# Altium integrated library Analog Devices Clock Generation and Distribution.IntLib: 120 symbols (part 5 of 18)
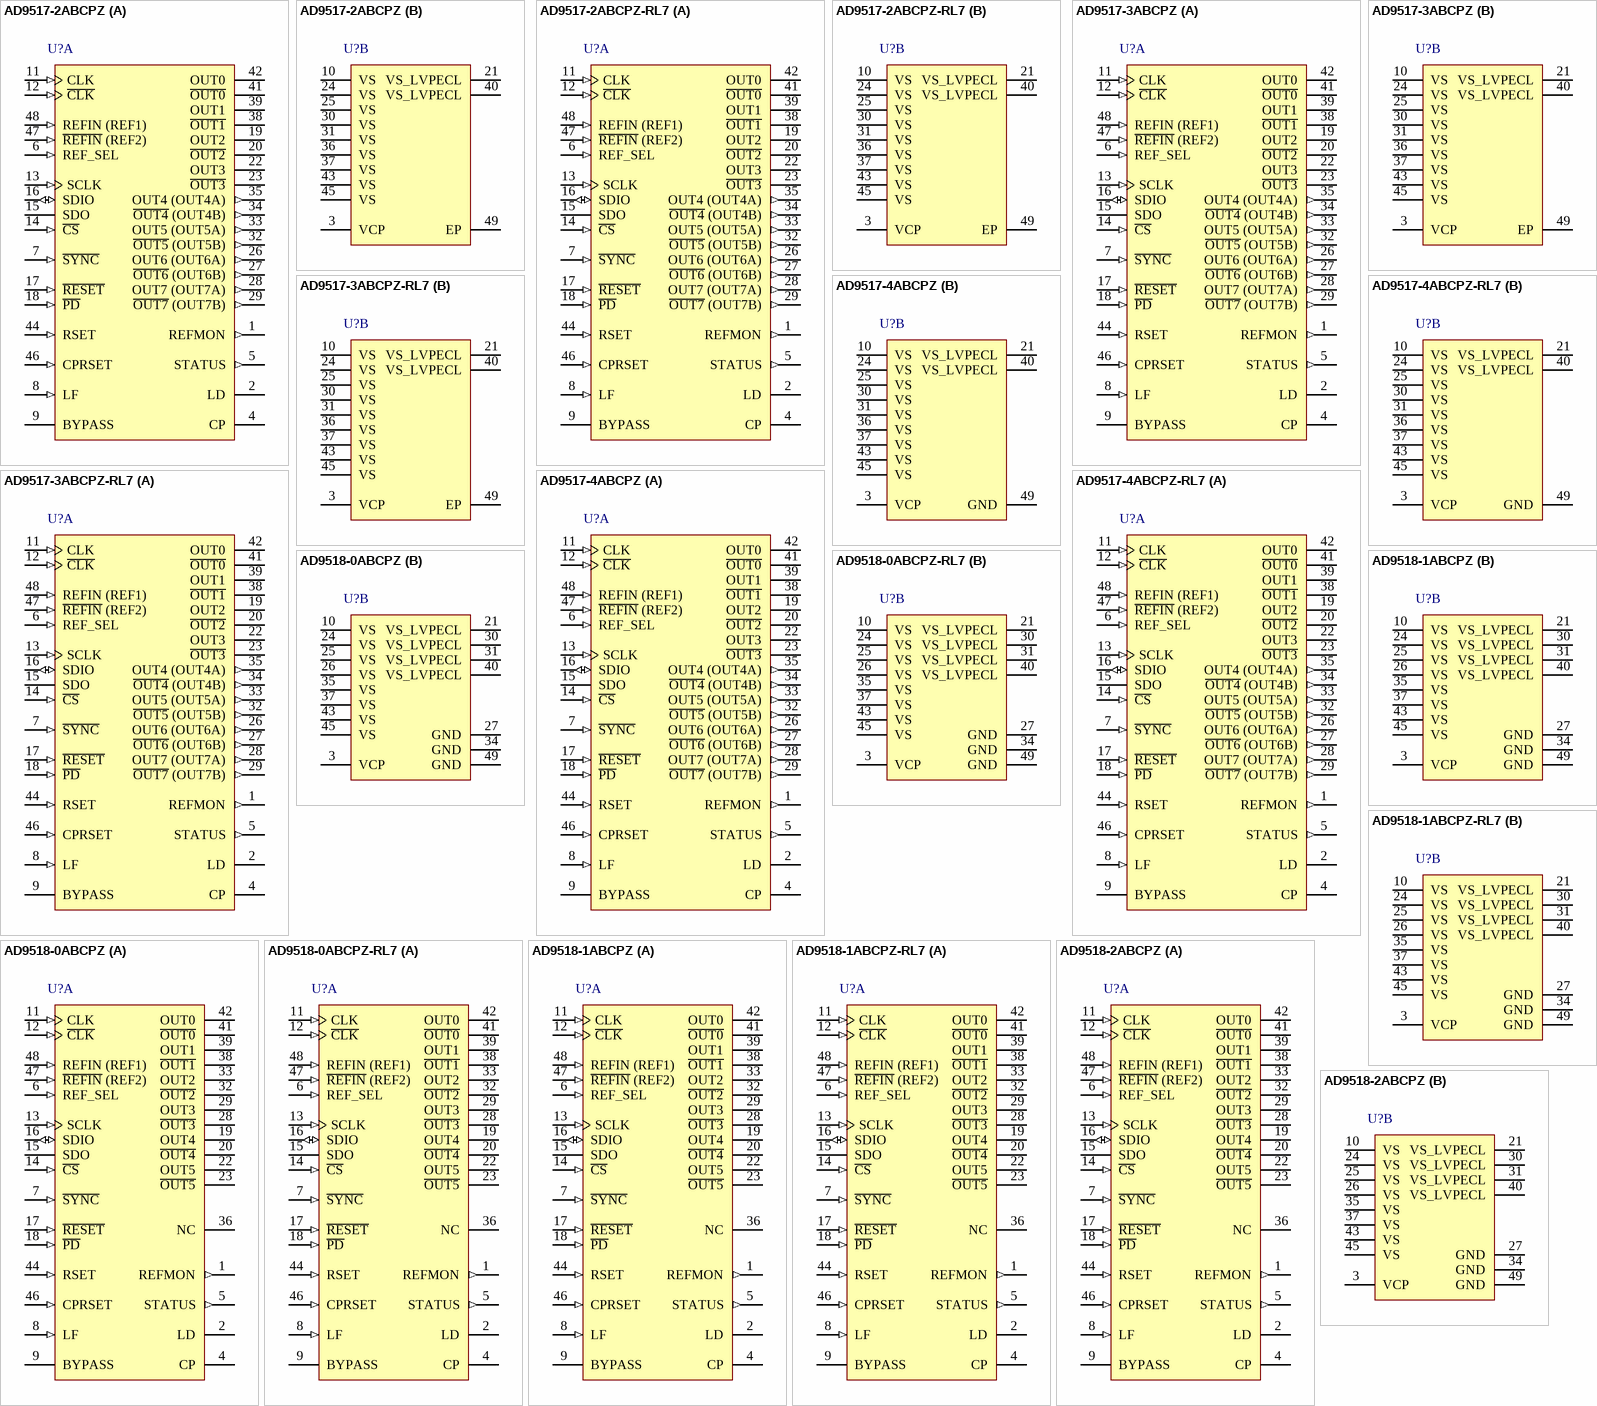
[diagram p16: symbols AD9517-2ABCPZ to AD9518-2ABCPZ]

## AD9518-2ABCPZ
designator U?
6 Outputs Clock Generator with Integrated 2.2 GHz VCO, 3.3 V Supply, Industrial, 48-pin QFN (CP-48-8), Tray; Manufacturer: Analog Devices; PartNumber: AD9518-2ABCPZ; # of Inputs: 2; # of Outputs: 6; Supply Voltage (V): 3.3; I/O Interface: Serial; Max f-out: 2.335 GHz; On-Chip VCO or DCO: Yes; Output Logic: LVPECL; DatasheetVersion: Rev. C; PackageVersion: 06-06-2012-C, 06/2012; PackageReference: CP-48-8; PackageDescription: 48-Pin Lead Frame Chip Scale Package, Body 7 x 7 mm, Pitch 0.5 mm; Supplier 1: Digi-Key; Supplier Part Number 1: AD9518-2ABCPZ-ND; Supplier 2: Mouser; Supplier Part Number 2: 584-AD9518-2ABCPZ; Packing: Tray; Mounting Technology: Surface Mount; Code_JEDEC: MO-220-VKKD-2; ComponentLink1Description: Manufacturer URL; ComponentLink1URL: http://www.analog.com/en/index.html; ComponentLink2Description: Datasheet; ComponentLink2URL: http://www.analog.com/static/imported-files/data_sheets/AD9518_2.pdf; ComponentLink3Description: Package Specification; ComponentLink3URL: http://www.analog.com/static/imported-files/packages/PKG_PDF/LFCSP(CP)/CP_48_8.pdf; ComponentLink4Description: Product URL; ComponentLink4URL: http://www.analog.com/en/clock-and-timing/clock-generation-and-distribution/ad9518-2/products/product.html
footprint ADI-CP-48-8_N (QFN, 48-Leads, Body 7x7mm, Pitch 0.5mm, Thermal Pad 5.5x5.5mm, IPC Medium Density)
footprint ADI-CP-48-8_L (QFN, 48-Leads, Body 7x7mm, Pitch 0.5mm, Thermal Pad 5.5x5.5mm, IPC High Density)
footprint ADI-CP-48-8_M (QFN, 48-Leads, Body 7x7mm, Pitch 0.5mm, Thermal Pad 5.5x5.5mm, IPC Low Density)
part A pins: 1 REFMON (out) "Reference Monitor (Output). This pin has multiple selectable outputs; see Table 44, Register 0x01B.", 2 LD (hiz) "Lock Detect (Output). This pin has multiple selectable outputs; see Table 44, Register 0x01A.", 4 CP (hiz) "Charge Pump (Output). Connects to external loop filter.", 5 STATUS (out) "Status (Output). This pin has multiple selectable outputs; see Table 44, Register 0x017.", 6 REF_SEL (in) "Reference Select. Selects REF1 (low) or REF2 (high). This pin has an internal 30 K ohm pull-down resistor.", 7 ~{SYNC} (in) "Manual Synchronizations and Manual Holdover. This pin initiates a manual synchronization and is used for manual holdover. Active low. This pin has an internal 30 K ohm pull-up resistor.", 8 LF (in) "Loop Filter (Input). Connects to VCO control voltage node internally. This pin has 31 pF of internal capacitance to ground, which may influence the loop filter design for large loop bandwidths.", 9 BYPASS "This pin is for bypassing the LDO to ground with a capacitor.", 11 CLK (in) "Along with C\L\K\, this is the self-biased differential input for the clock distribution section. This pin can be left floating if internal VCO is used.", 12 ~{CLK} (in) "Along with CLK, this is the self-biased differential input for the clock distribution section. This pin can be left floating if internal VCO is used.", 13 SCLK (in) "Serial Control Port Data Clock Signal.", 14 ~{CS} (in) "Serial Control Port Chip Select, Active Low. This pin has an internal 30 K ohm pull-up resistor.", 15 SDO (hiz) "Serial Control Port. Unidirectional serial data output.", 16 SDIO (io) "Serial Control Port. Bidirectional serial data input/output.", 17 ~{RESET} (in) "Chip Reset, Active Low. This pin has an internal 30 K ohm pull-up resistor.", 18 ~{PD} (in) "Chip Power Down, Active Low. This pin has an internal 30 K ohm pull-up resistor.", 19 OUT4 (hiz) "LVPECL Output; One Side of a Differential LVPECL Output.", 20 ~{OUT4} (hiz) "LVPECL Output; One Side of a Differential LVPECL Output.", 22 OUT5 (hiz) "LVPECL Output; One Side of a Differential LVPECL Output", 23 ~{OUT5} (hiz) "LVPECL Output; One Side of a Differential LVPECL Output", 28 ~{OUT3} (hiz) "LVPECL Output; One Side of a Differential LVPECL Output", 29 OUT3 (hiz) "LVPECL Output; One Side of a Differential LVPECL Output", 32 ~{OUT2} (hiz) "LVPECL Output; One Side of a Differential LVPECL Output", 33 OUT2 (hiz) "LVPECL Output; One Side of a Differential LVPECL Output", 36 NC "No Connection", 38 ~{OUT1} (hiz) "LVPECL Output; One Side of a Differential LVPECL Output", 39 OUT1 (hiz) "LVPECL Output; One Side of a Differential LVPECL Output", 41 ~{OUT0} (hiz) "LVPECL Output; One Side of a Differential LVPECL Output", 42 OUT0 (hiz) "LVPECL Output; One Side of a Differential LVPECL Output", 44 RSET (in) "Resistor connected here sets internal bias currents. Nominal value = 4.12 K ohm.", 46 CPRSET (in) "Resistor connected here sets the CP current range. Nominal value = 5.1 K ohm.", 47 ~{REFIN} (REF2) (in) "Along with REFIN, this is the self-biased differential input for the PLL reference. Alternatively, this pin is a single-ended input for REF2.", 48 REFIN (REF1) (in) "Along with R\E\F\I\N\, this is the self-biased differential input for the PLL reference. Alternatively, this pin is a single-ended input for REF1"
part B pins: 3 VCP (power) "Power Supply for Charge Pump (CP). VS =< VCP =< 5.0 V. This pin is usually 3.3 V for most applications; but if a 5 V external VCXO is used, this pin should be 5 V.", 10 VS (power) "3.3 V Power Pins.", 21 VS_LVPECL (power) "Extended Voltage 2.5 V to 3.3 V LVPECL Power Pins", 24 VS (power) "3.3 V Power Pins.", 25 VS (power) "3.3 V Power Pins.", 26 VS (power) "3.3 V Power Pins.", 27 GND (power) "Ground. See the description for EPAD.", 30 VS_LVPECL (power) "Extended Voltage 2.5 V to 3.3 V LVPECL Power Pins", 31 VS_LVPECL (power) "Extended Voltage 2.5 V to 3.3 V LVPECL Power Pins", 34 GND (power) "Ground. See the description for EPAD.", 35 VS (power) "3.3 V Power Pins.", 37 VS (power) "3.3 V Power Pins.", 40 VS_LVPECL (power) "Extended Voltage 2.5 V to 3.3 V LVPECL Power Pins", 43 VS (power) "3.3 V Power Pins.", 45 VS (power) "3.3 V Power Pins.", 49 GND (power) "Ground. The external paddle on the bottom of the package must be connected to ground for proper operation."

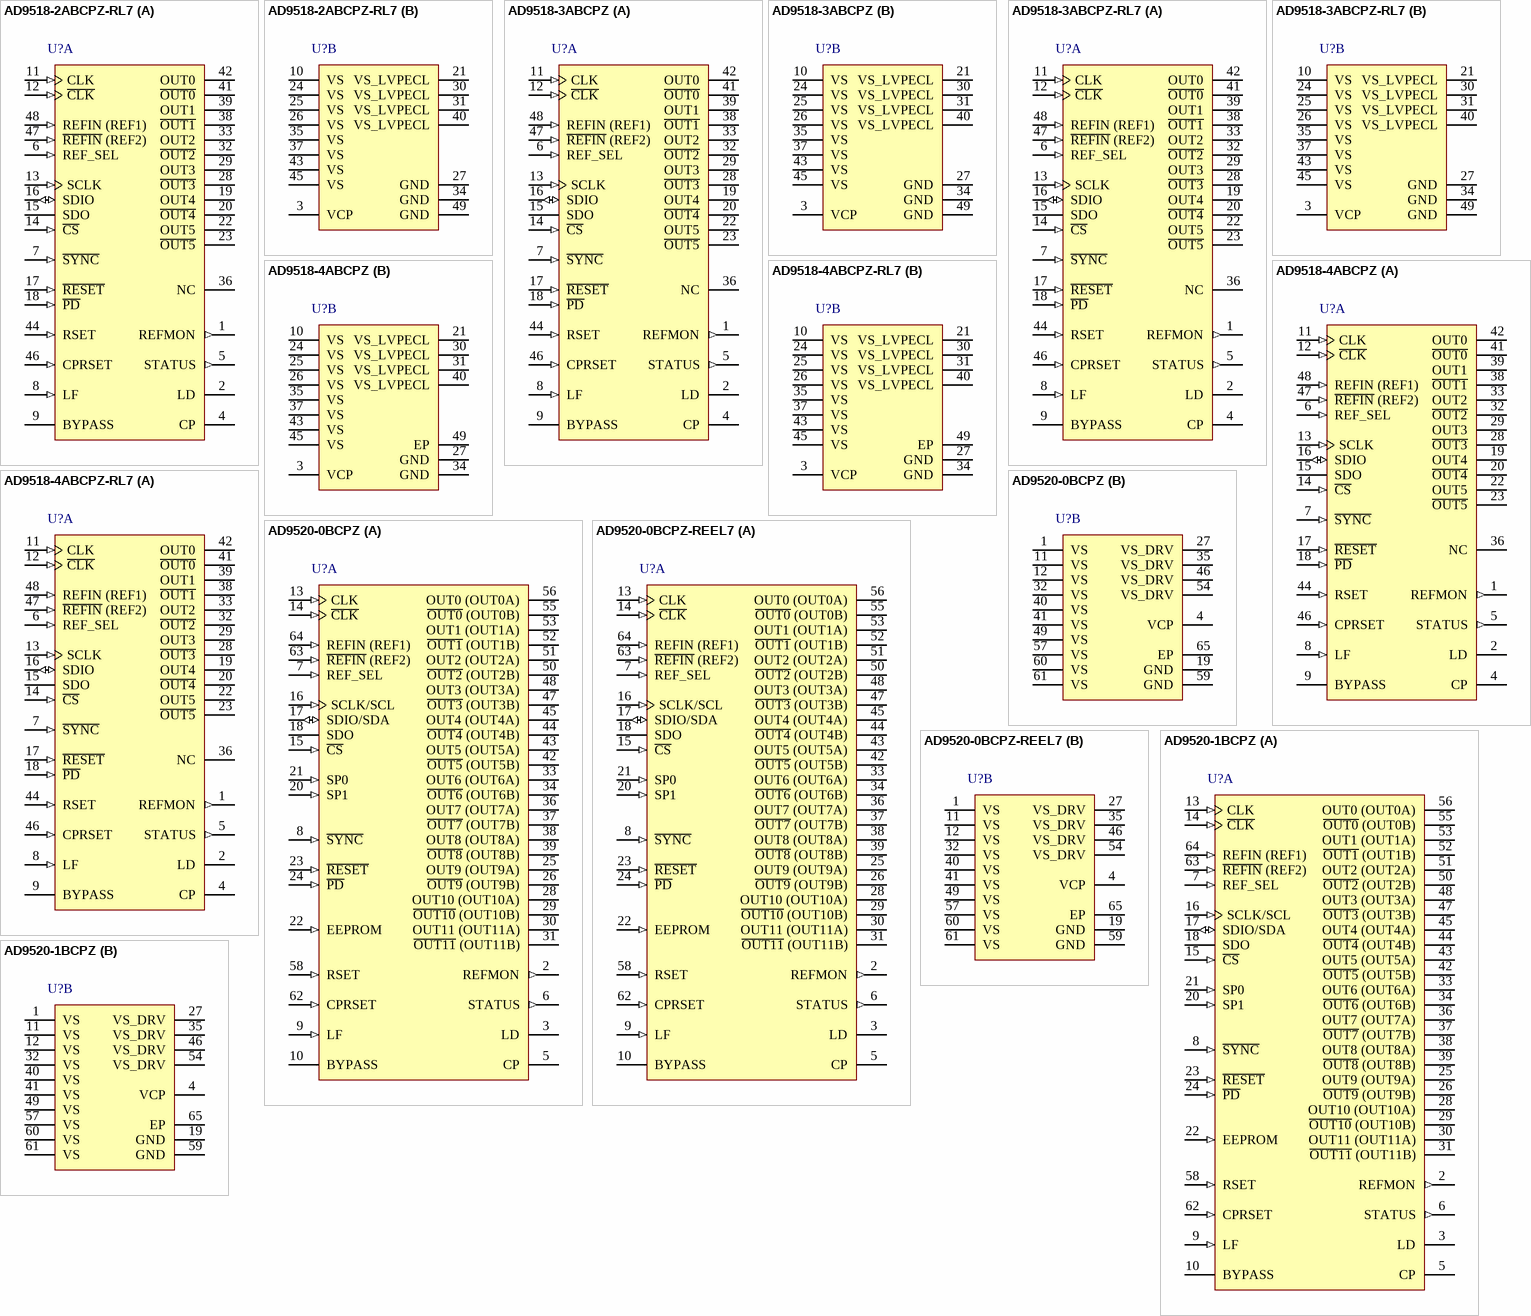
[diagram p3: symbols AD9518-2ABCPZ-RL7 to AD9520-1BCPZ]

## AD9518-2ABCPZ-RL7
designator U?
6 Outputs Clock Generator with Integrated 2.2 GHz VCO, 3.3 V Supply, Industrial, 48-pin QFN (CP-48-8), Reel; Manufacturer: Analog Devices; PartNumber: AD9518-2ABCPZ-RL7; # of Inputs: 2; # of Outputs: 6; Supply Voltage (V): 3.3; I/O Interface: Serial; Max f-out: 2.335 GHz; On-Chip VCO or DCO: Yes; Output Logic: LVPECL; DatasheetVersion: Rev. C; PackageVersion: 06-06-2012-C, 06/2012; PackageReference: CP-48-8; PackageDescription: 48-Pin Lead Frame Chip Scale Package, Body 7 x 7 mm, Pitch 0.5 mm; Supplier 1: Digi-Key; Supplier Part Number 1: AD9518-2ABCPZ-RL7-ND; Supplier 2: Mouser; Supplier Part Number 2: 584-AD9518-2ABCPZ-R7; Packing: Reel; Mounting Technology: Surface Mount; Code_JEDEC: MO-220-VKKD-2; ComponentLink1Description: Manufacturer URL; ComponentLink1URL: http://www.analog.com/en/index.html; ComponentLink2Description: Datasheet; ComponentLink2URL: http://www.analog.com/static/imported-files/data_sheets/AD9518_2.pdf; ComponentLink3Description: Package Specification; ComponentLink3URL: http://www.analog.com/static/imported-files/packages/PKG_PDF/LFCSP(CP)/CP_48_8.pdf; ComponentLink4Description: Product URL; ComponentLink4URL: http://www.analog.com/en/clock-and-timing/clock-generation-and-distribution/ad9518-2/products/product.html
footprint ADI-CP-48-8_N (QFN, 48-Leads, Body 7x7mm, Pitch 0.5mm, Thermal Pad 5.5x5.5mm, IPC Medium Density)
footprint ADI-CP-48-8_L (QFN, 48-Leads, Body 7x7mm, Pitch 0.5mm, Thermal Pad 5.5x5.5mm, IPC High Density)
footprint ADI-CP-48-8_M (QFN, 48-Leads, Body 7x7mm, Pitch 0.5mm, Thermal Pad 5.5x5.5mm, IPC Low Density)
part A pins: 1 REFMON (out) "Reference Monitor (Output). This pin has multiple selectable outputs; see Table 44, Register 0x01B.", 2 LD (hiz) "Lock Detect (Output). This pin has multiple selectable outputs; see Table 44, Register 0x01A.", 4 CP (hiz) "Charge Pump (Output). Connects to external loop filter.", 5 STATUS (out) "Status (Output). This pin has multiple selectable outputs; see Table 44, Register 0x017.", 6 REF_SEL (in) "Reference Select. Selects REF1 (low) or REF2 (high). This pin has an internal 30 K ohm pull-down resistor.", 7 ~{SYNC} (in) "Manual Synchronizations and Manual Holdover. This pin initiates a manual synchronization and is used for manual holdover. Active low. This pin has an internal 30 K ohm pull-up resistor.", 8 LF (in) "Loop Filter (Input). Connects to VCO control voltage node internally. This pin has 31 pF of internal capacitance to ground, which may influence the loop filter design for large loop bandwidths.", 9 BYPASS "This pin is for bypassing the LDO to ground with a capacitor.", 11 CLK (in) "Along with C\L\K\, this is the self-biased differential input for the clock distribution section. This pin can be left floating if internal VCO is used.", 12 ~{CLK} (in) "Along with CLK, this is the self-biased differential input for the clock distribution section. This pin can be left floating if internal VCO is used.", 13 SCLK (in) "Serial Control Port Data Clock Signal.", 14 ~{CS} (in) "Serial Control Port Chip Select, Active Low. This pin has an internal 30 K ohm pull-up resistor.", 15 SDO (hiz) "Serial Control Port. Unidirectional serial data output.", 16 SDIO (io) "Serial Control Port. Bidirectional serial data input/output.", 17 ~{RESET} (in) "Chip Reset, Active Low. This pin has an internal 30 K ohm pull-up resistor.", 18 ~{PD} (in) "Chip Power Down, Active Low. This pin has an internal 30 K ohm pull-up resistor.", 19 OUT4 (hiz) "LVPECL Output; One Side of a Differential LVPECL Output.", 20 ~{OUT4} (hiz) "LVPECL Output; One Side of a Differential LVPECL Output.", 22 OUT5 (hiz) "LVPECL Output; One Side of a Differential LVPECL Output", 23 ~{OUT5} (hiz) "LVPECL Output; One Side of a Differential LVPECL Output", 28 ~{OUT3} (hiz) "LVPECL Output; One Side of a Differential LVPECL Output", 29 OUT3 (hiz) "LVPECL Output; One Side of a Differential LVPECL Output", 32 ~{OUT2} (hiz) "LVPECL Output; One Side of a Differential LVPECL Output", 33 OUT2 (hiz) "LVPECL Output; One Side of a Differential LVPECL Output", 36 NC "No Connection", 38 ~{OUT1} (hiz) "LVPECL Output; One Side of a Differential LVPECL Output", 39 OUT1 (hiz) "LVPECL Output; One Side of a Differential LVPECL Output", 41 ~{OUT0} (hiz) "LVPECL Output; One Side of a Differential LVPECL Output", 42 OUT0 (hiz) "LVPECL Output; One Side of a Differential LVPECL Output", 44 RSET (in) "Resistor connected here sets internal bias currents. Nominal value = 4.12 K ohm.", 46 CPRSET (in) "Resistor connected here sets the CP current range. Nominal value = 5.1 K ohm.", 47 ~{REFIN} (REF2) (in) "Along with REFIN, this is the self-biased differential input for the PLL reference. Alternatively, this pin is a single-ended input for REF2.", 48 REFIN (REF1) (in) "Along with R\E\F\I\N\, this is the self-biased differential input for the PLL reference. Alternatively, this pin is a single-ended input for REF1"
part B pins: 3 VCP (power) "Power Supply for Charge Pump (CP). VS =< VCP =< 5.0 V. This pin is usually 3.3 V for most applications; but if a 5 V external VCXO is used, this pin should be 5 V.", 10 VS (power) "3.3 V Power Pins.", 21 VS_LVPECL (power) "Extended Voltage 2.5 V to 3.3 V LVPECL Power Pins", 24 VS (power) "3.3 V Power Pins.", 25 VS (power) "3.3 V Power Pins.", 26 VS (power) "3.3 V Power Pins.", 27 GND (power) "Ground. See the description for EPAD.", 30 VS_LVPECL (power) "Extended Voltage 2.5 V to 3.3 V LVPECL Power Pins", 31 VS_LVPECL (power) "Extended Voltage 2.5 V to 3.3 V LVPECL Power Pins", 34 GND (power) "Ground. See the description for EPAD.", 35 VS (power) "3.3 V Power Pins.", 37 VS (power) "3.3 V Power Pins.", 40 VS_LVPECL (power) "Extended Voltage 2.5 V to 3.3 V LVPECL Power Pins", 43 VS (power) "3.3 V Power Pins.", 45 VS (power) "3.3 V Power Pins.", 49 GND (power) "Ground. The external paddle on the bottom of the package must be connected to ground for proper operation."

## AD9518-3ABCPZ
designator U?
6 Outputs Clock Generator with Integrated 2.25 GHz VCO, 3.3 V Supply, Industrial, 48-pin QFN (CP-48-8), Tray; Manufacturer: Analog Devices; PartNumber: AD9518-3ABCPZ; # of Inputs: 2; # of Outputs: 6; Supply Voltage (V): 3.3; I/O Interface: Serial; On-Chip VCO or DCO: Yes; Output Logic: LVPECL; DatasheetVersion: Rev. C; PackageVersion: 06-06-2012-C, 06/2012; PackageReference: CP-48-8; PackageDescription: 48-Pin Lead Frame Chip Scale Package, Body 7 x 7 mm, Pitch 0.5 mm; Supplier 1: Digi-Key; Supplier Part Number 1: AD9518-3ABCPZ-ND; Supplier 2: Farnell; Supplier Part Number 2: 2312771; Supplier 3: Newark; Supplier Part Number 3: 51R0777; Supplier 4: Mouser; Supplier Part Number 4: 584-AD9518-3ABCPZ; Max f-out: 2.25 GHz; Packing: Tray; Mounting Technology: Surface Mount; Code_JEDEC: MO-220-VKKD-2; ComponentLink1Description: Manufacturer URL; ComponentLink1URL: http://www.analog.com/en/index.html; ComponentLink2Description: Datasheet; ComponentLink2URL: http://www.analog.com/static/imported-files/data_sheets/AD9518-3.pdf; ComponentLink3Description: Package Specification; ComponentLink3URL: http://www.analog.com/static/imported-files/packages/PKG_PDF/LFCSP(CP)/CP_48_8.pdf; ComponentLink4Description: Product URL; ComponentLink4URL: http://www.analog.com/en/clock-and-timing/clock-generation-and-distribution/ad9518-3/products/product.html
footprint ADI-CP-48-8_N (QFN, 48-Leads, Body 7x7mm, Pitch 0.5mm, Thermal Pad 5.5x5.5mm, IPC Medium Density)
footprint ADI-CP-48-8_L (QFN, 48-Leads, Body 7x7mm, Pitch 0.5mm, Thermal Pad 5.5x5.5mm, IPC High Density)
footprint ADI-CP-48-8_M (QFN, 48-Leads, Body 7x7mm, Pitch 0.5mm, Thermal Pad 5.5x5.5mm, IPC Low Density)
part A pins: 1 REFMON (out) "Reference Monitor (Output). This pin has multiple selectable outputs; see Table 44, Register 0x01B.", 2 LD (hiz) "Lock Detect (Output). This pin has multiple selectable outputs; see Table 44, Register 0x01A.", 4 CP (hiz) "Charge Pump (Output). Connects to external loop filter.", 5 STATUS (out) "Status (Output). This pin has multiple selectable outputs; see Table 44, Register 0x017.", 6 REF_SEL (in) "Reference Select. Selects REF1 (low) or REF2 (high). This pin has an internal 30 K ohm pull-down resistor.", 7 ~{SYNC} (in) "Manual Synchronizations and Manual Holdover. This pin initiates a manual synchronization and is used for manual holdover. Active low. This pin has an internal 30 K ohm pull-up resistor.", 8 LF (in) "Loop Filter (Input). Connects to VCO control voltage node internally. This pin has 31 pF of internal capacitance to ground, which may influence the loop filter design for large loop bandwidths.", 9 BYPASS "This pin is for bypassing the LDO to ground with a capacitor.", 11 CLK (in) "Along with C\L\K\, this is the self-biased differential input for the clock distribution section. This pin can be left floating if internal VCO is used.", 12 ~{CLK} (in) "Along with CLK, this is the self-biased differential input for the clock distribution section. This pin can be left floating if internal VCO is used.", 13 SCLK (in) "Serial Control Port Data Clock Signal.", 14 ~{CS} (in) "Serial Control Port Chip Select, Active Low. This pin has an internal 30 K ohm pull-up resistor.", 15 SDO (hiz) "Serial Control Port. Unidirectional serial data output.", 16 SDIO (io) "Serial Control Port. Bidirectional serial data input/output.", 17 ~{RESET} (in) "Chip Reset, Active Low. This pin has an internal 30 K ohm pull-up resistor.", 18 ~{PD} (in) "Chip Power Down, Active Low. This pin has an internal 30 K ohm pull-up resistor.", 19 OUT4 (oe) "LVPECL Output; One Side of a Differential LVPECL Output.", 20 ~{OUT4} (oe) "LVPECL Output; One Side of a Differential LVPECL Output.", 22 OUT5 (oe) "LVPECL Output; One Side of a Differential LVPECL Output", 23 ~{OUT5} (oe) "LVPECL Output; One Side of a Differential LVPECL Output", 28 ~{OUT3} (oe) "LVPECL Output; One Side of a Differential LVPECL Output", 29 OUT3 (oe) "LVPECL Output; One Side of a Differential LVPECL Output", 32 ~{OUT2} (oe) "LVPECL Output; One Side of a Differential LVPECL Output", 33 OUT2 (oe) "LVPECL Output; One Side of a Differential LVPECL Output", 36 NC "No Connection", 38 ~{OUT1} (oe) "LVPECL Output; One Side of a Differential LVPECL Output", 39 OUT1 (oe) "LVPECL Output; One Side of a Differential LVPECL Output", 41 ~{OUT0} (oe) "LVPECL Output; One Side of a Differential LVPECL Output", 42 OUT0 (oe) "LVPECL Output; One Side of a Differential LVPECL Output", 44 RSET (in) "Resistor connected here sets internal bias currents. Nominal value = 4.12 K ohm.", 46 CPRSET (in) "Resistor connected here sets the CP current range. Nominal value = 5.1 K ohm.", 47 ~{REFIN} (REF2) (in) "Along with REFIN, this is the self-biased differential input for the PLL reference. Alternatively, this pin is a single-ended input for REF2.", 48 REFIN (REF1) (in) "Along with R\E\F\I\N\, this is the self-biased differential input for the PLL reference. Alternatively, this pin is a single-ended input for REF1"
part B pins: 3 VCP (power) "Power Supply for Charge Pump (CP). VS =< VCP =< 5.0 V. This pin is usually 3.3 V for most applications; but if a 5 V external VCXO is used, this pin should be 5 V.", 10 VS (power) "3.3 V Power Pins.", 21 VS_LVPECL (power) "Extended Voltage 2.5 V to 3.3 V LVPECL Power Pins", 24 VS (power) "3.3 V Power Pins.", 25 VS (power) "3.3 V Power Pins.", 26 VS (power) "3.3 V Power Pins.", 27 GND (power) "Ground. See the description for EPAD.", 30 VS_LVPECL (power) "Extended Voltage 2.5 V to 3.3 V LVPECL Power Pins", 31 VS_LVPECL (power) "Extended Voltage 2.5 V to 3.3 V LVPECL Power Pins", 34 GND (power) "Ground. See the description for EPAD.", 35 VS (power) "3.3 V Power Pins.", 37 VS (power) "3.3 V Power Pins.", 40 VS_LVPECL (power) "Extended Voltage 2.5 V to 3.3 V LVPECL Power Pins", 43 VS (power) "3.3 V Power Pins.", 45 VS (power) "3.3 V Power Pins.", 49 GND (power) "Ground. The external paddle on the bottom of the package must be connected to ground for proper operation."

## AD9518-3ABCPZ-RL7
designator U?
6 Outputs Clock Generator with Integrated 2.25 GHz VCO, 3.3 V Supply, Industrial, 48-pin QFN (CP-48-8), Reel; Manufacturer: Analog Devices; PartNumber: AD9518-3ABCPZ-RL7; # of Inputs: 2; # of Outputs: 6; Supply Voltage (V): 3.3; I/O Interface: Serial; On-Chip VCO or DCO: Yes; Output Logic: LVPECL; DatasheetVersion: Rev. C; PackageVersion: 06-06-2012-C, 06/2012; PackageReference: CP-48-8; PackageDescription: 48-Pin Lead Frame Chip Scale Package, Body 7 x 7 mm, Pitch 0.5 mm; Supplier 1: Digi-Key; Supplier Part Number 1: AD9518-3ABCPZ-RL7-ND; Supplier 2: Mouser; Supplier Part Number 2: 584-AD9518-3ABCPZ-R7; Max f-out: 2.25 GHz; Packing: Reel; Mounting Technology: Surface Mount; Code_JEDEC: MO-220-VKKD-2; ComponentLink1Description: Manufacturer URL; ComponentLink1URL: http://www.analog.com/en/index.html; ComponentLink2Description: Datasheet; ComponentLink2URL: http://www.analog.com/static/imported-files/data_sheets/AD9518-3.pdf; ComponentLink3Description: Package Specification; ComponentLink3URL: http://www.analog.com/static/imported-files/packages/PKG_PDF/LFCSP(CP)/CP_48_8.pdf; ComponentLink4Description: Product URL; ComponentLink4URL: http://www.analog.com/en/clock-and-timing/clock-generation-and-distribution/ad9518-3/products/product.html
footprint ADI-CP-48-8_N (QFN, 48-Leads, Body 7x7mm, Pitch 0.5mm, Thermal Pad 5.5x5.5mm, IPC Medium Density)
footprint ADI-CP-48-8_L (QFN, 48-Leads, Body 7x7mm, Pitch 0.5mm, Thermal Pad 5.5x5.5mm, IPC High Density)
footprint ADI-CP-48-8_M (QFN, 48-Leads, Body 7x7mm, Pitch 0.5mm, Thermal Pad 5.5x5.5mm, IPC Low Density)
part A pins: 1 REFMON (out) "Reference Monitor (Output). This pin has multiple selectable outputs; see Table 44, Register 0x01B.", 2 LD (hiz) "Lock Detect (Output). This pin has multiple selectable outputs; see Table 44, Register 0x01A.", 4 CP (hiz) "Charge Pump (Output). Connects to external loop filter.", 5 STATUS (out) "Status (Output). This pin has multiple selectable outputs; see Table 44, Register 0x017.", 6 REF_SEL (in) "Reference Select. Selects REF1 (low) or REF2 (high). This pin has an internal 30 K ohm pull-down resistor.", 7 ~{SYNC} (in) "Manual Synchronizations and Manual Holdover. This pin initiates a manual synchronization and is used for manual holdover. Active low. This pin has an internal 30 K ohm pull-up resistor.", 8 LF (in) "Loop Filter (Input). Connects to VCO control voltage node internally. This pin has 31 pF of internal capacitance to ground, which may influence the loop filter design for large loop bandwidths.", 9 BYPASS "This pin is for bypassing the LDO to ground with a capacitor.", 11 CLK (in) "Along with C\L\K\, this is the self-biased differential input for the clock distribution section. This pin can be left floating if internal VCO is used.", 12 ~{CLK} (in) "Along with CLK, this is the self-biased differential input for the clock distribution section. This pin can be left floating if internal VCO is used.", 13 SCLK (in) "Serial Control Port Data Clock Signal.", 14 ~{CS} (in) "Serial Control Port Chip Select, Active Low. This pin has an internal 30 K ohm pull-up resistor.", 15 SDO (hiz) "Serial Control Port. Unidirectional serial data output.", 16 SDIO (io) "Serial Control Port. Bidirectional serial data input/output.", 17 ~{RESET} (in) "Chip Reset, Active Low. This pin has an internal 30 K ohm pull-up resistor.", 18 ~{PD} (in) "Chip Power Down, Active Low. This pin has an internal 30 K ohm pull-up resistor.", 19 OUT4 (oe) "LVPECL Output; One Side of a Differential LVPECL Output.", 20 ~{OUT4} (oe) "LVPECL Output; One Side of a Differential LVPECL Output.", 22 OUT5 (oe) "LVPECL Output; One Side of a Differential LVPECL Output", 23 ~{OUT5} (oe) "LVPECL Output; One Side of a Differential LVPECL Output", 28 ~{OUT3} (oe) "LVPECL Output; One Side of a Differential LVPECL Output", 29 OUT3 (oe) "LVPECL Output; One Side of a Differential LVPECL Output", 32 ~{OUT2} (oe) "LVPECL Output; One Side of a Differential LVPECL Output", 33 OUT2 (oe) "LVPECL Output; One Side of a Differential LVPECL Output", 36 NC "No Connection", 38 ~{OUT1} (oe) "LVPECL Output; One Side of a Differential LVPECL Output", 39 OUT1 (oe) "LVPECL Output; One Side of a Differential LVPECL Output", 41 ~{OUT0} (oe) "LVPECL Output; One Side of a Differential LVPECL Output", 42 OUT0 (oe) "LVPECL Output; One Side of a Differential LVPECL Output", 44 RSET (in) "Resistor connected here sets internal bias currents. Nominal value = 4.12 K ohm.", 46 CPRSET (in) "Resistor connected here sets the CP current range. Nominal value = 5.1 K ohm.", 47 ~{REFIN} (REF2) (in) "Along with REFIN, this is the self-biased differential input for the PLL reference. Alternatively, this pin is a single-ended input for REF2.", 48 REFIN (REF1) (in) "Along with R\E\F\I\N\, this is the self-biased differential input for the PLL reference. Alternatively, this pin is a single-ended input for REF1"
part B pins: 3 VCP (power) "Power Supply for Charge Pump (CP). VS =< VCP =< 5.0 V. This pin is usually 3.3 V for most applications; but if a 5 V external VCXO is used, this pin should be 5 V.", 10 VS (power) "3.3 V Power Pins.", 21 VS_LVPECL (power) "Extended Voltage 2.5 V to 3.3 V LVPECL Power Pins", 24 VS (power) "3.3 V Power Pins.", 25 VS (power) "3.3 V Power Pins.", 26 VS (power) "3.3 V Power Pins.", 27 GND (power) "Ground. See the description for EPAD.", 30 VS_LVPECL (power) "Extended Voltage 2.5 V to 3.3 V LVPECL Power Pins", 31 VS_LVPECL (power) "Extended Voltage 2.5 V to 3.3 V LVPECL Power Pins", 34 GND (power) "Ground. See the description for EPAD.", 35 VS (power) "3.3 V Power Pins.", 37 VS (power) "3.3 V Power Pins.", 40 VS_LVPECL (power) "Extended Voltage 2.5 V to 3.3 V LVPECL Power Pins", 43 VS (power) "3.3 V Power Pins.", 45 VS (power) "3.3 V Power Pins.", 49 GND (power) "Ground. The external paddle on the bottom of the package must be connected to ground for proper operation."

## AD9518-4ABCPZ
designator U?
6 Outputs Clock Generator with Integrated 2.4 GHz VCO, 3.3 V Supply, Industrial, 48-pin QFN (CP-48-8), Tray; Manufacturer: Analog Devices; PartNumber: AD9518-4ABCPZ; # of Inputs: 2; # of Outputs: 6; Supply Voltage (V): 3.3; I/O Interface: Serial; Max f-out: 2.25 GHz; On-Chip VCO or DCO: Yes; Output Logic: LVPECL; DatasheetVersion: Rev. C; PackageVersion: 06-06-2012-C, 06/2012; PackageReference: CP-48-8; PackageDescription: 48-Pin Lead Frame Chip Scale Package, Body 7 x 7 mm, Pitch 0.5 mm; Supplier 1: Digi-Key; Supplier Part Number 1: AD9518-4ABCPZ-ND; Supplier 2: Farnell; Supplier Part Number 2: 2312772; Supplier 3: Newark; Supplier Part Number 3: 51R0779; Supplier 4: Mouser; Supplier Part Number 4: 584-AD9518-4ABCPZ; Packing: Tray; Mounting Technology: Surface Mount; Code_JEDEC: MO-220-VKKD-2; ComponentLink1Description: Manufacturer URL; ComponentLink1URL: http://www.analog.com/en/index.html; ComponentLink2Description: Datasheet; ComponentLink2URL: http://www.analog.com/static/imported-files/data_sheets/AD9518-4.pdf; ComponentLink3Description: Package Specification; ComponentLink3URL: http://www.analog.com/static/imported-files/packages/PKG_PDF/LFCSP(CP)/CP_48_8.pdf; ComponentLink4Description: Product URL; ComponentLink4URL: http://www.analog.com/en/clock-and-timing/clock-generation-and-distribution/ad9518-4/products/product.html
footprint ADI-CP-48-8_N (QFN, 48-Leads, Body 7x7mm, Pitch 0.5mm, Thermal Pad 5.5x5.5mm, IPC Medium Density)
footprint ADI-CP-48-8_L (QFN, 48-Leads, Body 7x7mm, Pitch 0.5mm, Thermal Pad 5.5x5.5mm, IPC High Density)
footprint ADI-CP-48-8_M (QFN, 48-Leads, Body 7x7mm, Pitch 0.5mm, Thermal Pad 5.5x5.5mm, IPC Low Density)
part A pins: 1 REFMON (out) "Reference Monitor (Output). This pin has multiple selectable outputs; see Table 44, Register 0x01B.", 2 LD (hiz) "Lock Detect (Output). This pin has multiple selectable outputs; see Table 44, Register 0x01A.", 4 CP (hiz) "Charge Pump (Output). Connects to external loop filter.", 5 STATUS (out) "Status (Output). This pin has multiple selectable outputs; see Table 44, Register 0x017.", 6 REF_SEL (in) "Reference Select. Selects REF1 (low) or REF2 (high). This pin has an internal 30 K ohm pull-down resistor.", 7 ~{SYNC} (in) "Manual Synchronizations and Manual Holdover. This pin initiates a manual synchronization and is used for manual holdover. Active low. This pin has an internal 30 K ohm pull-up resistor.", 8 LF (in) "Loop Filter (Input). Connects to VCO control voltage node internally. This pin has 31 pF of internal capacitance to ground, which may influence the loop filter design for large loop bandwidths.", 9 BYPASS "This pin is for bypassing the LDO to ground with a capacitor.", 11 CLK (in) "Along with C\L\K\, this is the self-biased differential input for the clock distribution section. This pin can be left floating if internal VCO is used.", 12 ~{CLK} (in) "Along with CLK, this is the self-biased differential input for the clock distribution section. This pin can be left floating if internal VCO is used.", 13 SCLK (in) "Serial Control Port Data Clock Signal.", 14 ~{CS} (in) "Serial Control Port Chip Select, Active Low. This pin has an internal 30 K ohm pull-up resistor.", 15 SDO (hiz) "Serial Control Port. Unidirectional serial data output.", 16 SDIO (io) "Serial Control Port. Bidirectional serial data input/output.", 17 ~{RESET} (in) "Chip Reset, Active Low. This pin has an internal 30 K ohm pull-up resistor.", 18 ~{PD} (in) "Chip Power Down, Active Low. This pin has an internal 30 K ohm pull-up resistor.", 19 OUT4 (oe) "LVPECL Output; One Side of a Differential LVPECL Output.", 20 ~{OUT4} (oe) "LVPECL Output; One Side of a Differential LVPECL Output.", 22 OUT5 (oe) "LVPECL Output; One Side of a Differential LVPECL Output", 23 ~{OUT5} (oe) "LVPECL Output; One Side of a Differential LVPECL Output", 28 ~{OUT3} (oe) "LVPECL Output; One Side of a Differential LVPECL Output", 29 OUT3 (oe) "LVPECL Output; One Side of a Differential LVPECL Output", 32 ~{OUT2} (oe) "LVPECL Output; One Side of a Differential LVPECL Output", 33 OUT2 (oe) "LVPECL Output; One Side of a Differential LVPECL Output", 36 NC "No Connection", 38 ~{OUT1} (oe) "LVPECL Output; One Side of a Differential LVPECL Output", 39 OUT1 (oe) "LVPECL Output; One Side of a Differential LVPECL Output", 41 ~{OUT0} (oe) "LVPECL Output; One Side of a Differential LVPECL Output", 42 OUT0 (oe) "LVPECL Output; One Side of a Differential LVPECL Output", 44 RSET (in) "Resistor connected here sets internal bias currents. Nominal value = 4.12 K ohm.", 46 CPRSET (in) "Resistor connected here sets the CP current range. Nominal value = 5.1 K ohm.", 47 ~{REFIN} (REF2) (in) "Along with REFIN, this is the self-biased differential input for the PLL reference. Alternatively, this pin is a single-ended input for REF2.", 48 REFIN (REF1) (in) "Along with R\E\F\I\N\, this is the self-biased differential input for the PLL reference. Alternatively, this pin is a single-ended input for REF1"
part B pins: 3 VCP (power) "Power Supply for Charge Pump (CP). VS =< VCP =< 5.0 V. This pin is usually 3.3 V for most applications; but if a 5 V external VCXO is used, this pin should be 5 V.", 10 VS (power) "3.3 V Power Pins.", 21 VS_LVPECL (power) "Extended Voltage 2.5 V to 3.3 V LVPECL Power Pins", 24 VS (power) "3.3 V Power Pins.", 25 VS (power) "3.3 V Power Pins.", 26 VS (power) "3.3 V Power Pins.", 27 GND (power) "Ground. See the description for EPAD.", 30 VS_LVPECL (power) "Extended Voltage 2.5 V to 3.3 V LVPECL Power Pins", 31 VS_LVPECL (power) "Extended Voltage 2.5 V to 3.3 V LVPECL Power Pins", 34 GND (power) "Ground. See the description for EPAD.", 35 VS (power) "3.3 V Power Pins.", 37 VS (power) "3.3 V Power Pins.", 40 VS_LVPECL (power) "Extended Voltage 2.5 V to 3.3 V LVPECL Power Pins", 43 VS (power) "3.3 V Power Pins.", 45 VS (power) "3.3 V Power Pins.", 49 EP (power) "Ground. The external paddle on the bottom of the package must be connected to ground for proper operation."

## AD9518-4ABCPZ-RL7
designator U?
6 Outputs Clock Generator with Integrated 2.4 GHz VCO, 3.3 V Supply, Industrial, 48-pin QFN (CP-48-8), Reel; Manufacturer: Analog Devices; PartNumber: AD9518-4ABCPZ-RL7; # of Inputs: 2; # of Outputs: 6; Supply Voltage (V): 3.3; I/O Interface: Serial; Max f-out: 2.25 GHz; On-Chip VCO or DCO: Yes; Output Logic: LVPECL; DatasheetVersion: Rev. C; PackageVersion: 06-06-2012-C, 06/2012; PackageReference: CP-48-8; PackageDescription: 48-Pin Lead Frame Chip Scale Package, Body 7 x 7 mm, Pitch 0.5 mm; Supplier 1: Digi-Key; Supplier Part Number 1: AD9518-4ABCPZ-RL7-ND; Supplier 2: Mouser; Supplier Part Number 2: 584-AD9518-4ABCPZ-R7; Packing: Reel; Mounting Technology: Surface Mount; Code_JEDEC: MO-220-VKKD-2; ComponentLink1Description: Manufacturer URL; ComponentLink1URL: http://www.analog.com/en/index.html; ComponentLink2Description: Datasheet; ComponentLink2URL: http://www.analog.com/static/imported-files/data_sheets/AD9518-4.pdf; ComponentLink3Description: Package Specification; ComponentLink3URL: http://www.analog.com/static/imported-files/packages/PKG_PDF/LFCSP(CP)/CP_48_8.pdf; ComponentLink4Description: Product URL; ComponentLink4URL: http://www.analog.com/en/clock-and-timing/clock-generation-and-distribution/ad9518-4/products/product.html
footprint ADI-CP-48-8_N (QFN, 48-Leads, Body 7x7mm, Pitch 0.5mm, Thermal Pad 5.5x5.5mm, IPC Medium Density)
footprint ADI-CP-48-8_L (QFN, 48-Leads, Body 7x7mm, Pitch 0.5mm, Thermal Pad 5.5x5.5mm, IPC High Density)
footprint ADI-CP-48-8_M (QFN, 48-Leads, Body 7x7mm, Pitch 0.5mm, Thermal Pad 5.5x5.5mm, IPC Low Density)
part A pins: 1 REFMON (out) "Reference Monitor (Output). This pin has multiple selectable outputs; see Table 44, Register 0x01B.", 2 LD (hiz) "Lock Detect (Output). This pin has multiple selectable outputs; see Table 44, Register 0x01A.", 4 CP (hiz) "Charge Pump (Output). Connects to external loop filter.", 5 STATUS (out) "Status (Output). This pin has multiple selectable outputs; see Table 44, Register 0x017.", 6 REF_SEL (in) "Reference Select. Selects REF1 (low) or REF2 (high). This pin has an internal 30 K ohm pull-down resistor.", 7 ~{SYNC} (in) "Manual Synchronizations and Manual Holdover. This pin initiates a manual synchronization and is used for manual holdover. Active low. This pin has an internal 30 K ohm pull-up resistor.", 8 LF (in) "Loop Filter (Input). Connects to VCO control voltage node internally. This pin has 31 pF of internal capacitance to ground, which may influence the loop filter design for large loop bandwidths.", 9 BYPASS "This pin is for bypassing the LDO to ground with a capacitor.", 11 CLK (in) "Along with C\L\K\, this is the self-biased differential input for the clock distribution section. This pin can be left floating if internal VCO is used.", 12 ~{CLK} (in) "Along with CLK, this is the self-biased differential input for the clock distribution section. This pin can be left floating if internal VCO is used.", 13 SCLK (in) "Serial Control Port Data Clock Signal.", 14 ~{CS} (in) "Serial Control Port Chip Select, Active Low. This pin has an internal 30 K ohm pull-up resistor.", 15 SDO (hiz) "Serial Control Port. Unidirectional serial data output.", 16 SDIO (io) "Serial Control Port. Bidirectional serial data input/output.", 17 ~{RESET} (in) "Chip Reset, Active Low. This pin has an internal 30 K ohm pull-up resistor.", 18 ~{PD} (in) "Chip Power Down, Active Low. This pin has an internal 30 K ohm pull-up resistor.", 19 OUT4 (oe) "LVPECL Output; One Side of a Differential LVPECL Output.", 20 ~{OUT4} (oe) "LVPECL Output; One Side of a Differential LVPECL Output.", 22 OUT5 (oe) "LVPECL Output; One Side of a Differential LVPECL Output", 23 ~{OUT5} (oe) "LVPECL Output; One Side of a Differential LVPECL Output", 28 ~{OUT3} (oe) "LVPECL Output; One Side of a Differential LVPECL Output", 29 OUT3 (oe) "LVPECL Output; One Side of a Differential LVPECL Output", 32 ~{OUT2} (oe) "LVPECL Output; One Side of a Differential LVPECL Output", 33 OUT2 (oe) "LVPECL Output; One Side of a Differential LVPECL Output", 36 NC "No Connection", 38 ~{OUT1} (oe) "LVPECL Output; One Side of a Differential LVPECL Output", 39 OUT1 (oe) "LVPECL Output; One Side of a Differential LVPECL Output", 41 ~{OUT0} (oe) "LVPECL Output; One Side of a Differential LVPECL Output", 42 OUT0 (oe) "LVPECL Output; One Side of a Differential LVPECL Output", 44 RSET (in) "Resistor connected here sets internal bias currents. Nominal value = 4.12 K ohm.", 46 CPRSET (in) "Resistor connected here sets the CP current range. Nominal value = 5.1 K ohm.", 47 ~{REFIN} (REF2) (in) "Along with REFIN, this is the self-biased differential input for the PLL reference. Alternatively, this pin is a single-ended input for REF2.", 48 REFIN (REF1) (in) "Along with R\E\F\I\N\, this is the self-biased differential input for the PLL reference. Alternatively, this pin is a single-ended input for REF1"
part B pins: 3 VCP (power) "Power Supply for Charge Pump (CP). VS =< VCP =< 5.0 V. This pin is usually 3.3 V for most applications; but if a 5 V external VCXO is used, this pin should be 5 V.", 10 VS (power) "3.3 V Power Pins.", 21 VS_LVPECL (power) "Extended Voltage 2.5 V to 3.3 V LVPECL Power Pins", 24 VS (power) "3.3 V Power Pins.", 25 VS (power) "3.3 V Power Pins.", 26 VS (power) "3.3 V Power Pins.", 27 GND (power) "Ground. See the description for EPAD.", 30 VS_LVPECL (power) "Extended Voltage 2.5 V to 3.3 V LVPECL Power Pins", 31 VS_LVPECL (power) "Extended Voltage 2.5 V to 3.3 V LVPECL Power Pins", 34 GND (power) "Ground. See the description for EPAD.", 35 VS (power) "3.3 V Power Pins.", 37 VS (power) "3.3 V Power Pins.", 40 VS_LVPECL (power) "Extended Voltage 2.5 V to 3.3 V LVPECL Power Pins", 43 VS (power) "3.3 V Power Pins.", 45 VS (power) "3.3 V Power Pins.", 49 EP (power) "Ground. The external paddle on the bottom of the package must be connected to ground for proper operation."

## AD9520-0BCPZ
designator U?
12 LVPECL / 24 CMOS Outputs Clock Generator with Integrated 2.8 GHz VCO, 3.3 V Supply, Commercial, 64-pin QFN (CP-64-4), Tray; Manufacturer: Analog Devices; PartNumber: AD9520-0BCPZ; # of Inputs: 2; # of Outputs: 24; Supply Voltage (V): 3.3; I/O Interface: Serial; Max f-out: 2.95 GHz; On-Chip VCO or DCO: Yes; Output Logic: CMOS, LVPECL; DatasheetVersion: Rev. 0; PackageVersion: 06-12-2012-B, 06/2012; PackageReference: CP-64-4; PackageDescription: 64-Pin Lead Frame Chip Scale Package, Body 9 x 9 mm, Pitch 0.5 mm; Supplier 1: Digi-Key; Supplier Part Number 1: AD9520-0BCPZ-ND; Supplier 2: Newark; Supplier Part Number 2: 11P2931; Supplier 3: Mouser; Supplier Part Number 3: 584-AD9520-0BCPZ; Packing: Tray; Mounting Technology: Surface Mount; Code_JEDEC: MO-220-VMMD-4; ComponentLink1Description: Manufacturer URL; ComponentLink1URL: http://www.analog.com/en/index.html; ComponentLink2Description: Datasheet; ComponentLink2URL: http://www.analog.com/static/imported-files/data_sheets/AD9520-0.pdf; ComponentLink3Description: Package Specification; ComponentLink3URL: http://www.analog.com/static/imported-files/packages/PKG_PDF/LFCSP(CP)/CP_64_4.pdf; ComponentLink4Description: Product URL; ComponentLink4URL: http://www.analog.com/en/clock-and-timing/clock-generation-and-distribution/ad9520-0/products/product.html; ComponentLink5Description: Reference Circuit; ComponentLink5URL: http://www.analog.com/en/clock-and-timing/clock-generation-and-distribution/ad9520-0/products/product.html#product-recommendations
footprint ADI-CP-64-4_N (QFN, 64-Leads, Body 9x9mm, Pitch 0.5mm, Thermal Pad 6.2x6.2mm, IPC Medium Density)
footprint ADI-CP-64-4_L (QFN, 64-Leads, Body 9x9mm, Pitch 0.5mm, Thermal Pad 6.2x6.2mm, IPC High Density)
footprint ADI-CP-64-4_M (QFN, 64-Leads, Body 9x9mm, Pitch 0.5mm, Thermal Pad 6.2x6.2mm, IPC Low Density)
part A pins: 2 REFMON (out) "Reference Monitor (Output). This pin has multiple selectable outputs.", 3 LD (hiz) "Lock Detect (Output). This pin has multiple selectable outputs.", 5 CP (hiz) "Charge Pump (Output). This pin connects to an external loop filter. This pin can be left unconnected if the PLL is not used.", 6 STATUS (out) "Programmable Status Output.", 7 REF_SEL (in) "Reference Select. It selects REF1 (low) or REF2 (high). This pin has an internal 30 K ohm pull-down resistor.", 8 ~{SYNC} (in) "Manual Synchronizations and Manual Holdover. This pin initiates a manual synchronization and is used for manual holdover. Active low. This pin has an internal 30 K ohm pull-up resistor.", 9 LF (in) "Loop Filter (Input). It connects internally to the VCO control voltage node.", 10 BYPASS "This pin is for bypassing the LDO to ground with a 220 nF capacitor. This pin can be left unconnected if the PLL is not used.", 13 CLK (in) "Along with C\L\K\, this pin is the differential input for the clock distribution section.", 14 ~{CLK} (in) "Along with CLK, this pin is the differential input for the clock distribution section. If a single-ended input is connected to the CLK pin, connect a 0.1 uF bypass capacitor from this pin to ground.", 15 ~{CS} (in) "Serial Control Port Chip Select; Active Low. This pin has an internal 30 K ohm pull-up resistor.", 16 SCLK/SCL (in) "Serial Control Port Clock Signal. This pin has an internal 30 K ohm pull-down resistor in SPI mode but is high impedance in I2C mode.", 17 SDIO/SDA (io) "Serial Control Port Bidirectional Serial Data In/Out.", 18 SDO (hiz) "Serial Control Port Unidirectional Serial Data Out.", 20 SP1 (in) "Select SPI or I2C as the serial interface port and select the I2C slave address in I2C mode. Three-level logic. This pin is internally biased for the open logic level.", 21 SP0 (in) "Select SPI or I2C as the serial interface port and select the I2C slave address in I2C mode. Three-level logic. This pin is internally biased for the open logic level.", 22 EEPROM (in) "Setting this pin high selects the register values stored in the internal EEPROM to be loaded at reset and/or power-up. Setting this pin low causes the AD9520 to load the hard-coded default register values at power-up/reset. [see datasheet]", 23 ~{RESET} (in) "Chip Reset, Active Low. This pin has an internal 30 K ohm pull-up resistor.", 24 ~{PD} (in) "Chip Power-Down, Active Low. This pin has an internal 30 K ohm pull-up resistor.", 25 OUT9 (OUT9A) (hiz) "Clock Output. This pin can be configured as one side of a differential LVPECL output or as a single-ended CMOS output.", 26 ~{OUT9} (OUT9B) (hiz) "Clock Output. This pin can be configured as one side of a differential LVPECL output or as a single-ended CMOS output.", 28 OUT10 (OUT10A) (hiz) "Clock Output. This pin can be configured as one side of a differential LVPECL output or as a single-ended CMOS output.", 29 ~{OUT10} (OUT10B) (hiz) "Clock Output. This pin can be configured as one side of a differential LVPECL output or as a single-ended CMOS output.", 30 OUT11 (OUT11A) (hiz) "Clock Output. This pin can be configured as one side of a differential LVPECL output or as a single-ended CMOS output.", 31 ~{OUT11} (OUT11B) (hiz) "Clock Output. This pin can be configured as one side of a differential LVPECL output or as a single-ended CMOS output.", 33 OUT6 (OUT6A) (hiz) "Clock Output. This pin can be configured as one side of a differential LVPECL output or as a single-ended CMOS output.", 34 ~{OUT6} (OUT6B) (hiz) "Clock Output. This pin can be configured as one side of a differential LVPECL output or as a single-ended CMOS output.", 36 OUT7 (OUT7A) (hiz) "Clock Output. This pin can be configured as one side of a differential LVPECL output or as a single-ended CMOS output.", 37 ~{OUT7} (OUT7B) (hiz) "Clock Output. This pin can be configured as one side of a differential LVPECL output or as a single-ended CMOS output.", 38 OUT8 (OUT8A) (hiz) "Clock Output. This pin can be configured as one side of a differential LVPECL output or as a single-ended CMOS output.", 39 ~{OUT8} (OUT8B) (hiz) "Clock Output. This pin can be configured as one side of a differential LVPECL output or as a single-ended CMOS output.", 42 ~{OUT5} (OUT5B) (hiz) "Clock Output. This pin can be configured as one side of a differential LVPECL output or as a single-ended CMOS output.", 43 OUT5 (OUT5A) (hiz) "Clock Output. This pin can be configured as one side of a differential LVPECL output or as a single-ended CMOS output.", 44 ~{OUT4} (OUT4B) (hiz) "Clock Output. This pin can be configured as one side of a differential LVPECL output or as a single-ended CMOS output.", 45 OUT4 (OUT4A) (hiz) "Clock Output. This pin can be configured as one side of a differential LVPECL output or as a single-ended CMOS output.", 47 ~{OUT3} (OUT3B) (hiz) "Clock Output. This pin can be configured as one side of a differential LVPECL output or as a single-ended CMOS output.", 48 OUT3 (OUT3A) (hiz) "Clock Output. This pin can be configured as one side of a differential LVPECL output or as a single-ended CMOS output.", 50 ~{OUT2} (OUT2B) (hiz) "Clock Output. This pin can be configured as one side of a differential LVPECL output or as a single-ended CMOS output.", 51 OUT2 (OUT2A) (hiz) "Clock Output. This pin can be configured as one side of a differential LVPECL output or as a single-ended CMOS output.", 52 ~{OUT1} (OUT1B) (hiz) "Clock Output. This pin can be configured as one side of a differential LVPECL output or as a single-ended CMOS output.", 53 OUT1 (OUT1A) (hiz) "Clock Output. This pin can be configured as one side of a differential LVPECL output or as a single-ended CMOS output.", 55 ~{OUT0} (OUT0B) (hiz) "Clock Output. This pin can be configured as one side of a differential LVPECL output or as a single-ended CMOS output.", 56 OUT0 (OUT0A) (hiz) "Clock Output. This pin can be configured as one side of a differential LVPECL output or as a single-ended CMOS output.", 58 RSET (in) "Clock Distribution Current Set Resistor. Connect a 4.12 K ohm resistor from this pin to GND.", 62 CPRSET (in) "Charge Pump Current Set Resistor. Connect a 5.1 K ohm resistor from this pin to GND.This resistor can be omitted if the PLL is not used.", 63 ~{REFIN} (REF2) (in) "Along with REFIN, this is the differential input for the PLL reference. Alternatively, this pin is a single-ended input for REF2.", 64 REFIN (REF1) (in) "Along with R\E\F\I\N\, this is the differential input for the PLL reference. Alternatively, this pin is a single-ended input for REF1."
part B pins: 1 VS (power) "3.3 V Power Pins.", 4 VCP (power) "Power Supply for Charge Pump (CP); VS < VCP < 5.0 V. VCP must still be connected to 3.3 V if the PLL is not used.", 11 VS (power) "3.3 V Power Pins.", 12 VS (power) "3.3 V Power Pins.", 19 GND (power) "Ground Pins.", 27 VS_DRV (power) "Output Driver Power Supply Pins. As a group, these pins can be set to either 2.5 V or 3.3 V. All four pins must be set to the same voltage.", 32 VS (power) "3.3 V Power Pins.", 35 VS_DRV (power) "Output Driver Power Supply Pins. As a group, these pins can be set to either 2.5 V or 3.3 V. All four pins must be set to the same voltage.", 40 VS (power) "3.3 V Power Pins.", 41 VS (power) "3.3 V Power Pins.", 46 VS_DRV (power) "Output Driver Power Supply Pins. As a group, these pins can be set to either 2.5 V or 3.3 V. All four pins must be set to the same voltage.", 49 VS (power) "3.3 V Power Pins.", 54 VS_DRV (power) "Output Driver Power Supply Pins. As a group, these pins can be set to either 2.5 V or 3.3 V. All four pins must be set to the same voltage.", 57 VS (power) "3.3 V Power Pins.", 59 GND (power) "Ground Pins.", 60 VS (power) "3.3 V Power Pins.", 61 VS (power) "3.3 V Power Pins.", 65 EP (power) "The exposed die pad must be connected to GND."